# Altium footprint library OT_LoRaWAN_Kit_01.PcbLib: 16 footprints
Each footprint in its own frame and in the unit in brackets; x right, y up, seen from the top. Pads: shape width x height; smd on the part's side, far side on the other; paste and mask are expansions set on the pad; w line width, h text height; cw(c..) or ccw(c..) is an arc to the next point about the centre after c.
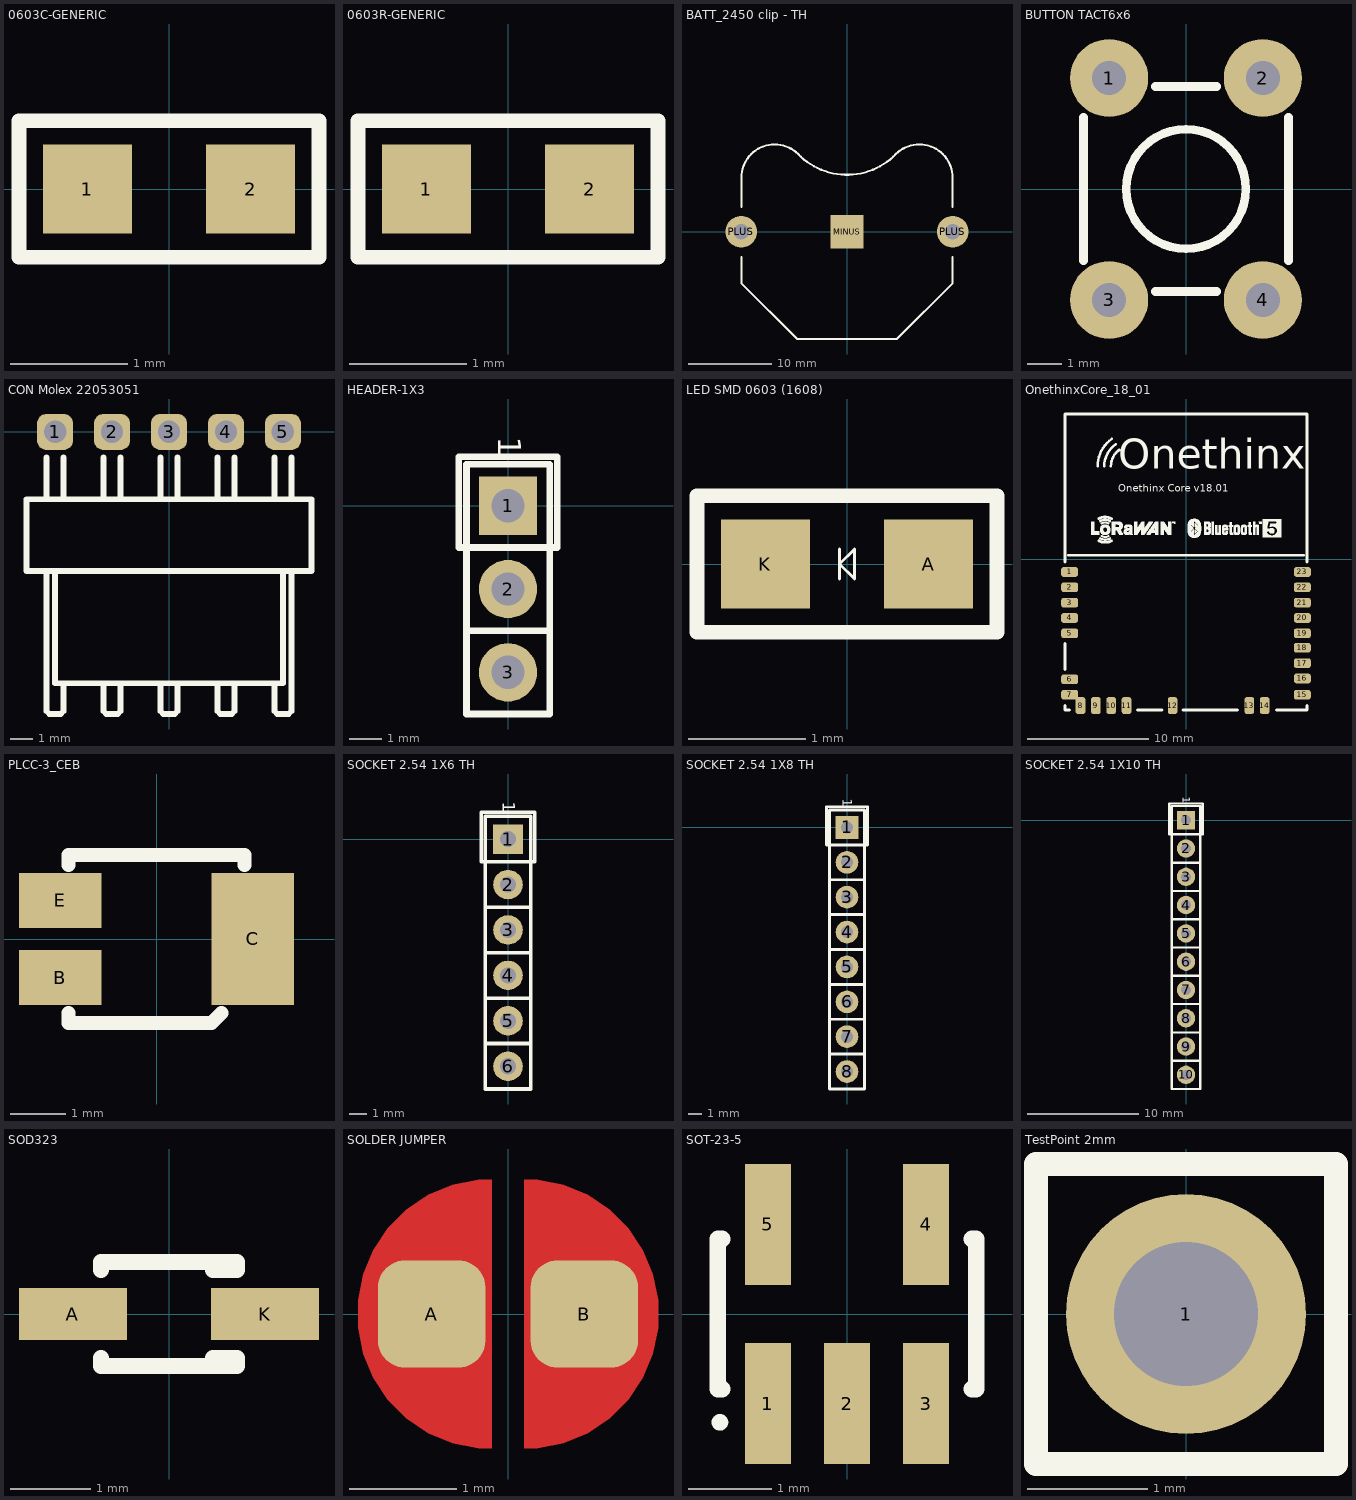
[diagram p0: the footprints below, top view; thin cyan lines are the x and y axes]

## 0603C-GENERIC [mil]
pads (2):
  rect 30x30 smd: 1(-27.56,0) 2(27.44,0)
Top Overlay:
  lines w5: -50.56,-23 50.44,-23 50.44,23 -50.56,23 -50.56,-23
3D body: height 19, standoff 18, extent -2.76,-4.33 1.57,4.33
3D body: height 18, standoff 0, extent -30.56,-14 30.44,14
3D body: height 19, standoff 0, extent 15.44,-15 31.44,15
3D body: height 19, standoff 0, extent -31.56,-15 -15.56,15

## 0603R-GENERIC [mil]
pads (2):
  rect 30x30 smd: 1(-27.5,0) 2(27.5,0)
Top Overlay:
  lines w5: -50.5,-23 -50.5,23 50.5,23 50.5,-23 -50.5,-23
3D body: height 18, standoff 0, extent -30.5,-14 30.5,14
3D body: height 19, standoff 18, extent -22.5,-13 22.5,13
3D body: height 19, standoff 0, extent 22.5,-15 31.5,15
3D body: height 19, standoff 0, extent -31.5,-15 -22.5,15
3D body: height 19.29, standoff 15, extent -2,-4.5 3,5.5

## BATT_2450 clip - TH [mm]
pads (3):
  rect 4x4 smd: MINUS(0,0)
  round 3.81 hole 1.85: PLUS(-12.7,0) PLUS(12.7,0)
Top Overlay:
  lines w0.254: -12.7,-3.025 -12.7,-6.2 -6,-12.9 6,-12.9 12.7,-6.2 12.7,-3.025 ; -12.7,3 -12.7,6.5 cw(c-8.7,6.5) -5.872,9.328 ; -5.892,9.349 ccw(c0,15) 5.892,9.349 ; 5.872,9.328 cw(c8.7,6.5) 12.7,6.5 12.7,3

## BUTTON TACT6x6 [mm]
pads (4):
  round 2.286 hole 1: 1(-2.25,3.25) 2(2.25,3.25) 3(-2.25,-3.25) 4(2.25,-3.25)
Top Overlay:
  circle w0.254: c0,0 r1.75
  lines w0.254: -3,-2.1 -3,2.1 ; -0.9,-3 0.9,-3 ; -0.9,3 0.9,3 ; 3,-2.1 3,2.1
3D body "Tact_6mm.stp": height 9.5, standoff -3.5, extent -3,-3.85 3,3.85

## CON Molex 22053051 [mm]
pads (5):
  rrect50% 1.6x1.6 hole 1: 1(-5.08,0) 2(-2.54,0) 3(0,0) 4(2.54,0) 5(5.08,0)
Top Overlay:
  lines w0.254: -5.461,-6.2 -5.461,-12.446 -5.334,-12.573 -4.826,-12.573 -4.699,-12.446 -4.699,-11.2 ; -5.461,-3 -5.461,-1.143 ; -5.08,-11.2 5.08,-11.2 ; -5.08,-11.176 -5.08,-6.2 ; -4.699,-3 -4.699,-1.143 ; -2.921,-11.2 -2.921,-12.446 -2.794,-12.573 -2.286,-12.573 -2.159,-12.446 -2.159,-11.2 ; -2.921,-3 -2.921,-1.143 ; -2.159,-3 -2.159,-1.143 ; -0.381,-11.2 -0.381,-12.446 -0.254,-12.573 0.254,-12.573 0.381,-12.446 0.381,-11.2 ; -0.381,-3 -0.381,-1.143 ; 0.381,-3 0.381,-1.143 ; 2.159,-11.2 2.159,-12.446 2.286,-12.573 2.794,-12.573 2.921,-12.446 2.921,-11.2 ; 2.159,-3 2.159,-1.143 ; 2.921,-3 2.921,-1.143 ; 4.699,-11.2 4.699,-12.446 4.826,-12.573 5.334,-12.573 5.461,-12.446 5.461,-6.2 ; 4.699,-3 4.699,-1.143 ; 5.08,-11.176 5.08,-6.2 ; 5.461,-3 5.461,-1.143 ; -6.35,-6.2 6.35,-6.2 6.35,-3 -6.35,-3 -6.35,-6.2

## HEADER-1X3 [mil]
pads (3):
  rect 70x70 hole 40: 1(-0.25,0)
  round 70 hole 40: 2(-0.25,-100) 3(-0.25,-200)
Top Overlay:
  lines w8: -50.25,-250 49.75,-250 ; -50.25,-150 49.75,-150 ; -50.25,50 49.75,50 ; -50,-250 -50,50 ; 50,-250 50,50 ; -59.3,-50 58.81,-50 58.81,59.06 -59.3,59.06 -59.3,-50
  text "1" at -12.06,82.68 h27.56
3D body: height 100, standoff 0, extent -50.24,-249.99 49.76,-149.99
3D body: height 354.33, standoff -120, extent -15.24,-214.99 14.76,-184.99
3D body: height 100, standoff 0, extent -50.24,-149.99 49.76,-49.99
3D body: height 354.33, standoff -120, extent -15.24,-114.99 14.76,-84.99
3D body: height 101, standoff 100, extent -35.25,-35 35.25,35
3D body: height 354.33, standoff -120, extent -15.24,-15 14.76,15
3D body: height 100, standoff 0, extent -50.24,-50 49.76,50

## LED SMD 0603 (1608) [mil]
pads (2):
  rect 30x30 smd: A(27.5,0) K(-27.5,0)
Top Overlay:
  lines w1: -2.5,-5 -2.5,5 ; -2.5,0 2.5,-5 2.5,5 -2.5,0
  lines w5: -50.5,-23 50.5,-23 50.5,23 -50.5,23 -50.5,-23
3D body: height 19.68, standoff 0, extent -30,-15 30,15
3D body: height 43.31, standoff 19.68, extent -22.5,-15 22.5,15
3D body: height 20.47, standoff 19.68, extent -20,-5 -10,5
3D body: height 10, standoff 0, extent -22.5,0 -22.5,0

## OnethinxCore_18_01 [mm] "Onethinx LoRaWAN Core V18.01"
pads (23):
  rrect50% 1.4x0.8 smd: 1(-9.625,-1.07) 2(-9.625,-2.34) 3(-9.625,-3.61) 4(-9.625,-4.88) 5(-9.625,-6.15) 6(-9.625,-9.96) 7(-9.625,-11.23) 15(9.625,-11.23) 16(9.625,-9.882) 17(9.625,-8.612) 18(9.625,-7.342) 19(9.625,-6.15) 20(9.625,-4.88) 21(9.625,-3.61) 22(9.625,-2.34) 23(9.625,-1.07)
  rrect50% 0.8x1.4 smd: 8(-8.73,-12.125) 9(-7.46,-12.125) 10(-6.19,-12.125) 11(-4.92,-12.125) 12(-1.11,-12.125) 13(5.24,-12.125) 14(6.51,-12.125)
Top Overlay:
  drawing of 5793 lines, arcs and shapes, not listed
  text "Onethinx Core v18.01" at -5.625,5.375 h1.06
  text "Onethinx" at -5.625,6.625 h4.25
3D body: height 0.25, standoff 0, extent 4.318,10.541 4.318,10.541
3D body: height 3, standoff 1, extent -8.5,-11 8.5,-0.5
3D body: height 1, standoff 0, extent -10.024,-12.5 10,12

## PLCC-3_CEB [mm]
pads (3):
  rect 1.5x1 smd: B(-1.75,-0.7) E(-1.75,0.7)
  rect 1.5x2.4 smd: C(1.75,0)
Top Overlay:
  lines w0.254: -1.6,-1.346 -1.6,-1.527 1,-1.527 1.181,-1.346 ; -1.6,1.346 -1.6,1.527 1.6,1.527 1.6,1.346
3D body "LED_PLCC-4.STEP": height 1.95, standoff 0, extent -1.75,-1.4 1.75,1.4

## SOCKET 2.54 1X6 TH [mil]
pads (6):
  rect 65x65 hole 35.43: 1(0,0)
  round 65 hole 35.43: 2(0,-100) 3(0,-200) 4(0,-300) 5(0,-400) 6(0,-500)
Top Overlay:
  lines w8: -50,-450 50,-450 ; -50,-350 50,-350 ; -50,-250 50,-250 ; -50,-150 50,-150 ; -59.06,-50 -59.06,59.06 59.06,59.06 59.06,-50 -59.06,-50 ; -50,-550 -50,50 50,50 50,-550 -50,-550
  text "1" at -11.81,82.68 h27.56
3D body: height 157.48, standoff -118.11, extent -12.5,-12.5 12.5,12.5
3D body: height 157.48, standoff -118.11, extent -12.5,-512.5 12.5,-487.5
3D body: height 157.48, standoff -118.11, extent -12.5,-412.5 12.5,-387.5
3D body: height 157.48, standoff -118.11, extent -12.5,-312.5 12.5,-287.5
3D body: height 157.48, standoff -118.11, extent -12.5,-212.5 12.5,-187.5
3D body: height 295.28, standoff 19.68, extent -50,-550 50,-450
3D body: height 295.28, standoff 19.68, extent -50,-350 50,-250
3D body: height 295.28, standoff 19.68, extent -50,-450 50,-350
3D body: height 295.28, standoff 19.68, extent -50,-250 50,-150
3D body: height 157.48, standoff -118.11, extent -12.5,-112.5 12.5,-87.5
3D body: height 295.28, standoff 19.68, extent -50,-150 50,-50
3D body: height 295.28, standoff 19.68, extent -50,-50 50,50

## SOCKET 2.54 1X8 TH [mil]
pads (8):
  rect 65x65 hole 35.43: 1(0,0)
  round 65 hole 35.43: 2(0,-100) 3(0,-200) 4(0,-300) 5(0,-400) 6(0,-500) 7(0,-600) 8(0,-700)
Top Overlay:
  lines w8: -50,-650 50,-650 ; -50,-550 50,-550 ; -50,-450 50,-450 ; -50,-350 50,-350 ; -50,-250 50,-250 ; -50,-150 50,-150 ; -59.06,-50 59.06,-50 59.06,59.06 -59.06,59.06 -59.06,-50 ; -50,-750 -50,50 50,50 50,-750 -50,-750
  text "1" at -11.81,82.68 h27.56
3D body: height 295.28, standoff 19.68, extent -50,-50 50,50
3D body: height 295.28, standoff 19.68, extent -50,-150 50,-50
3D body: height 157.48, standoff -118.11, extent -12.5,-112.5 12.5,-87.5
3D body: height 295.28, standoff 19.68, extent -50,-250 50,-150
3D body: height 295.28, standoff 19.68, extent -50,-450 50,-350
3D body: height 295.28, standoff 19.68, extent -50,-350 50,-250
3D body: height 295.28, standoff 19.68, extent -50,-550 50,-450
3D body: height 157.48, standoff -118.11, extent -12.5,-212.5 12.5,-187.5
3D body: height 157.48, standoff -118.11, extent -12.5,-312.5 12.5,-287.5
3D body: height 157.48, standoff -118.11, extent -12.5,-412.5 12.5,-387.5
3D body: height 157.48, standoff -118.11, extent -12.5,-512.5 12.5,-487.5
3D body: height 157.48, standoff -118.11, extent -12.5,-12.5 12.5,12.5
3D body: height 157.48, standoff -118.11, extent -12.5,-712.5 12.5,-687.5
3D body: height 157.48, standoff -118.11, extent -12.5,-612.5 12.5,-587.5
3D body: height 295.28, standoff 19.68, extent -50,-750 50,-650
3D body: height 295.28, standoff 19.68, extent -50,-650 50,-550

## SOCKET 2.54 1X10 TH [mil]
pads (10):
  rect 65x65 hole 35.43: 1(0,0)
  round 65 hole 35.43: 2(0,-100) 3(0,-200) 4(0,-300) 5(0,-400) 6(0,-500) 7(0,-600) 8(0,-700) 9(0,-800) 10(0,-900)
Top Overlay:
  lines w8: -50,-850 50,-850 ; -50,-750 50,-750 ; -50,-650 50,-650 ; -50,-550 50,-550 ; -50,-450 50,-450 ; -50,-350 50,-350 ; -50,-250 50,-250 ; -50,-150 50,-150 ; -59.06,-50 -59.06,59.06 59.06,59.06 59.06,-50 -59.06,-50 ; -50,-950 -50,50 50,50 50,-950 -50,-950
  text "1" at -11.81,82.68 h27.56
3D body: height 295.28, standoff 19.68, extent -50,-50 50,50
3D body: height 295.28, standoff 19.68, extent -50,-150 50,-50
3D body: height 157.48, standoff -118.11, extent -12.5,-112.5 12.5,-87.5
3D body: height 295.28, standoff 19.68, extent -50,-250 50,-150
3D body: height 295.28, standoff 19.68, extent -50,-450 50,-350
3D body: height 295.28, standoff 19.68, extent -50,-350 50,-250
3D body: height 295.28, standoff 19.68, extent -50,-550 50,-450
3D body: height 157.48, standoff -118.11, extent -12.5,-212.5 12.5,-187.5
3D body: height 157.48, standoff -118.11, extent -12.5,-312.5 12.5,-287.5
3D body: height 157.48, standoff -118.11, extent -12.5,-412.5 12.5,-387.5
3D body: height 157.48, standoff -118.11, extent -12.5,-512.5 12.5,-487.5
3D body: height 157.48, standoff -118.11, extent -12.5,-12.5 12.5,12.5
3D body: height 157.48, standoff -118.11, extent -12.5,-912.5 12.5,-887.5
3D body: height 157.48, standoff -118.11, extent -12.5,-812.5 12.5,-787.5
3D body: height 157.48, standoff -118.11, extent -12.5,-712.5 12.5,-687.5
3D body: height 157.48, standoff -118.11, extent -12.5,-612.5 12.5,-587.5
3D body: height 295.28, standoff 19.68, extent -50,-950 50,-850
3D body: height 295.28, standoff 19.68, extent -50,-750 50,-650
3D body: height 295.28, standoff 19.68, extent -50,-850 50,-750
3D body: height 295.28, standoff 19.68, extent -50,-650 50,-550

## SOD323 [mm]
pads (2):
  rect 1.35x0.65 smd: A(-1.2,0) K(1.2,0)
Top Overlay:
  lines w0.2: -0.85,-0.55 -0.85,-0.65 0.85,-0.65 0.85,-0.55 0.55,-0.55 0.55,-0.65 ; -0.85,0.55 -0.85,0.65 0.85,0.65 0.85,0.55 0.55,0.55 0.55,0.65
3D body "SOD323.STEP": height 0.9, standoff -0.09, extent -1.25,-0.625 1.25,0.625

## SOLDER JUMPER [mm]
pads (2):
  rrect50% 1x1 smd paste-10 mask+0: A(-0.711,0) B(0.711,0)
Top Layer:
  region: 0.152,-1.25 0.152,1.25 0.275,1.25 0.515,1.202 0.742,1.108 0.946,0.972 1.119,0.799 1.255,0.595 1.349,0.368 1.397,0.128 1.397,0.005 1.397,-0.005 1.397,-0.128 1.349,-0.368 1.255,-0.595 1.119,-0.799 0.946,-0.972 0.742,-1.108 0.515,-1.202 0.275,-1.25
  region: -0.152,1.25 -0.152,-1.25 -0.275,-1.25 -0.515,-1.202 -0.742,-1.108 -0.946,-0.972 -1.119,-0.799 -1.255,-0.595 -1.349,-0.368 -1.397,-0.128 -1.397,-0.005 -1.397,0.005 -1.397,0.128 -1.349,0.368 -1.255,0.595 -1.119,0.799 -0.946,0.972 -0.742,1.108 -0.515,1.202 -0.275,1.25

## SOT-23-5 [mm]
pads (5):
  rect 0.55x1.45 smd: 1(-0.95,-1.075) 2(0,-1.075) 3(0.95,-1.075) 4(0.95,1.075) 5(-0.95,1.075)
Top Overlay:
  circle w0.1: c-1.525,-1.3 r0.05
  lines w0.2: -1.5,-0.9 -1.55,-0.9 -1.55,0.9 -1.5,0.9 ; 1.5,-0.9 1.55,-0.9 1.55,0.9 1.5,0.9
3D body "SOT23-5.STEP": height 1.09, standoff -0.01, extent -1.45,-1.397 1.45,1.403

## TestPoint 2mm [mm]
pads (1):
  round 2 hole 1.2: 1(0,0)
Top Overlay:
  lines w0.203: -1.25,-1.25 1.25,-1.25 1.25,1.25 -1.25,1.25 -1.25,-1.25